# Altium footprint library 15_to_28_Pin.PcbLib: 49 footprints (part 4 of 4)
Each footprint in its own frame and in the unit in brackets; x right, y up, seen from the top. Pads: shape width x height; smd on the part's side, far side on the other; paste and mask are expansions set on the pad; w line width, h text height; cw(c..) or ccw(c..) is an arc to the next point about the centre after c.
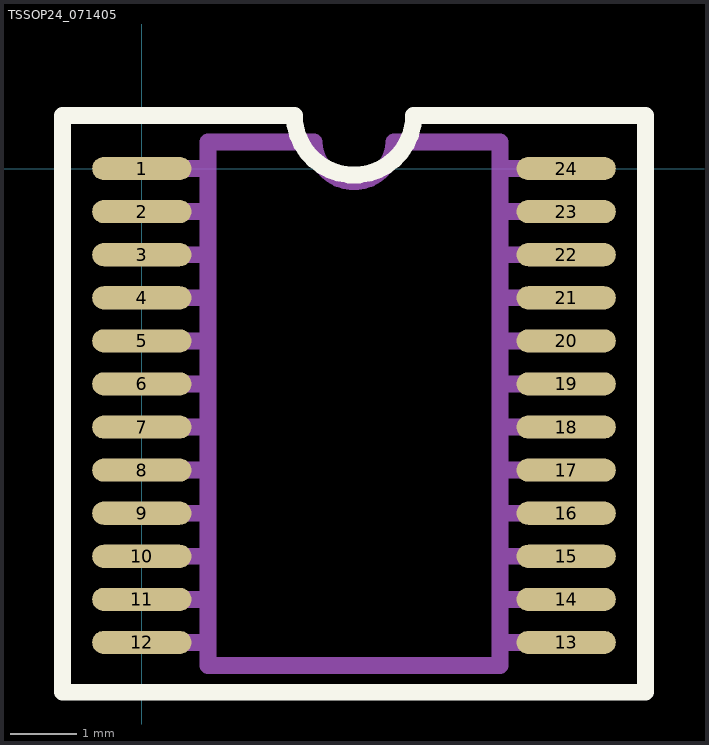
[diagram p3: the footprint, top view; thin cyan lines are the x and y axes]

## TSSOP24_071405 [mm] "SM FP"
height 1
pads (24):
  oval 1.5x0.35 smd mask+0.038: 1(0,0) 2(0,-0.65) 3(0,-1.3) 4(0,-1.95) 5(0,-2.6) 6(0,-3.25) 7(0,-3.9) 8(0,-4.55) 9(0,-5.2) 10(0,-5.85) 11(0,-6.5) 12(0,-7.15) 13(6.4,-7.15) 14(6.4,-6.5) 15(6.4,-5.85) 16(6.4,-5.2) 17(6.4,-4.55) 18(6.4,-3.9) 19(6.4,-3.25) 20(6.4,-2.6) 21(6.4,-1.95) 22(6.4,-1.3) 23(6.4,-0.65) 24(6.4,0)
Top Overlay:
  lines w0.254: -1.2,-7.9 -1.2,0.8 2.3,0.8 ccw(c3.2,0.8) 4.1,0.8 7.6,0.8 7.6,-7.9 -1.2,-7.9
Assembly Outline:
  lines w0.254: 0,-7.15 1,-7.15 ; 0,-6.5 1,-6.5 ; 0,-5.85 1,-5.85 ; 0,-5.2 1,-5.2 ; 0,-4.55 1,-4.55 ; 0,-3.9 1,-3.9 ; 0,-3.25 1,-3.25 ; 0,-2.6 1,-2.6 ; 0,-1.95 1,-1.95 ; 0,-1.3 1,-1.3 ; 0,-0.65 1,-0.65 ; 0,0 1,0 ; 5.4,-7.15 6.4,-7.15 ; 5.4,-6.5 6.4,-6.5 ; 5.4,-5.85 6.4,-5.85 ; 5.4,-5.2 6.4,-5.2 ; 5.4,-4.55 6.4,-4.55 ; 5.4,-3.9 6.4,-3.9 ; 5.4,-3.25 6.4,-3.25 ; 5.4,-2.6 6.4,-2.6 ; 5.4,-1.95 6.4,-1.95 ; 5.4,-1.3 6.4,-1.3 ; 5.4,-0.65 6.4,-0.65 ; 5.4,0 6.4,0 ; 1,-7.5 1,0.4 2.6,0.4 ccw(c3.2,0.4) 3.8,0.4 5.4,0.4 5.4,-7.5 1,-7.5
Assembly Designator:
  text ".Designator" at 2.3,-4.2 h1.02
Assembly Comment:
  text ".Comment" at -0.3,-8.8 h1.02